# Altium integrated library Misc PCB Antenna.IntLib: 1 symbol
Pins are listed as number, name and electrical type; pins without a type are passive.

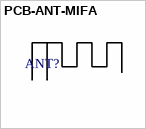
[diagram p0: symbol PCB-ANT-MIFA]

## PCB-ANT-MIFA
designator ANT?  (no BOM)
Meandered Inverted-F 2.4GHz PCB Antenna
footprint 2.4GHz MIFA 15.2m*5.7mm (Meandered Inverted-F Antenna)
pins: 1